# Altium schematic symbol library Resonator.schlib: 1 symbol
Pins are listed as number, name and electrical type; pins without a type are passive.

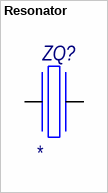
[diagram p0: symbol Resonator]

## Resonator
designator ZQ?
Name: *; Value: *
footprint KX-7 (smd 3.2x2.5 mm crystal resonator); pin to pad 2>3
footprint KX–327NHT (QUARTZ CRYSTALS 32,768 kHz SMD-version)
footprint XRCGB_F_Z (smd 2x1.6 mm crystal resonator); pin to pad 2>3
footprint HC-49SM
pins: 1, 2